# Altium footprint library ds1021_1x6sf11.PcbLib: 1 footprints
Each footprint in its own frame and in the unit in brackets; x right, y up, seen from the top. Pads: shape width x height; smd on the part's side, far side on the other; paste and mask are expansions set on the pad; w line width, h text height; cw(c..) or ccw(c..) is an arc to the next point about the centre after c.
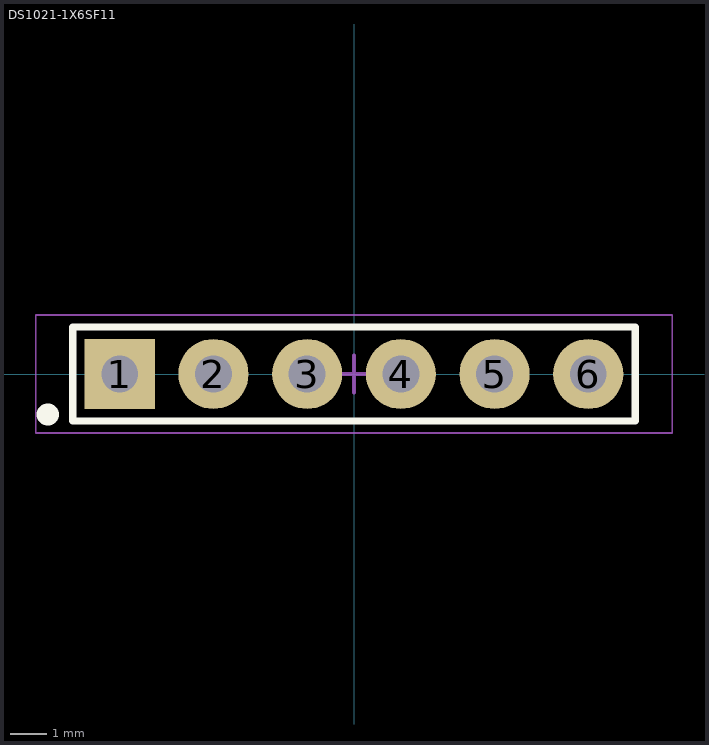
[diagram p0: the footprint, top view; thin cyan lines are the x and y axes]

## DS1021-1X6SF11 [mm]
height 8.6
pads (6):
  rect 1.9x1.9 hole 1: 1(-6.35,0)
  round 1.9 hole 1: 2(-3.81,0) 3(-1.27,0)
  round 1.9 hole 1 mask+0.102: 4(1.27,0) 5(3.81,0) 6(6.35,0)
Top Overlay:
  circle w0.6: c-8.3,-1.1 r0.001
  lines w0.2: -7.625,-1.275 7.625,-1.275 7.625,1.275 -7.625,1.275 -7.625,-1.275
Top Comment:
  text ".Comment" at 1.1,1.7 h1.2
Top Designator:
  text ".Designator" at -0.5,1.7 h1.2
Top Component Outline:
  circle w0.35: c-6.875,0.325 r0.15
  lines w0.1: -7.625,-1.275 -7.625,1.275 7.625,1.275 7.625,-1.275 -7.625,-1.275
Top Courtyard (Mech15):
  lines w0.05: -8.625,-1.6 8.625,-1.6 8.625,1.6 -8.625,1.6 -8.625,-1.6
  lines w0.1: -0.5,0 0.5,0 ; 0,-0.5 0,0.5
3D body "PLS-6.STEP": height 8.54, standoff -3, extent -7.615,-1.27 7.625,1.27